# Altium footprint library lianche_noBOM_lib.PcbLib: 26 footprints (part 2 of 2)
Each footprint in its own frame and in the unit in brackets; x right, y up, seen from the top. Pads: shape width x height; smd on the part's side, far side on the other; paste and mask are expansions set on the pad; w line width, h text height; cw(c..) or ccw(c..) is an arc to the next point about the centre after c.
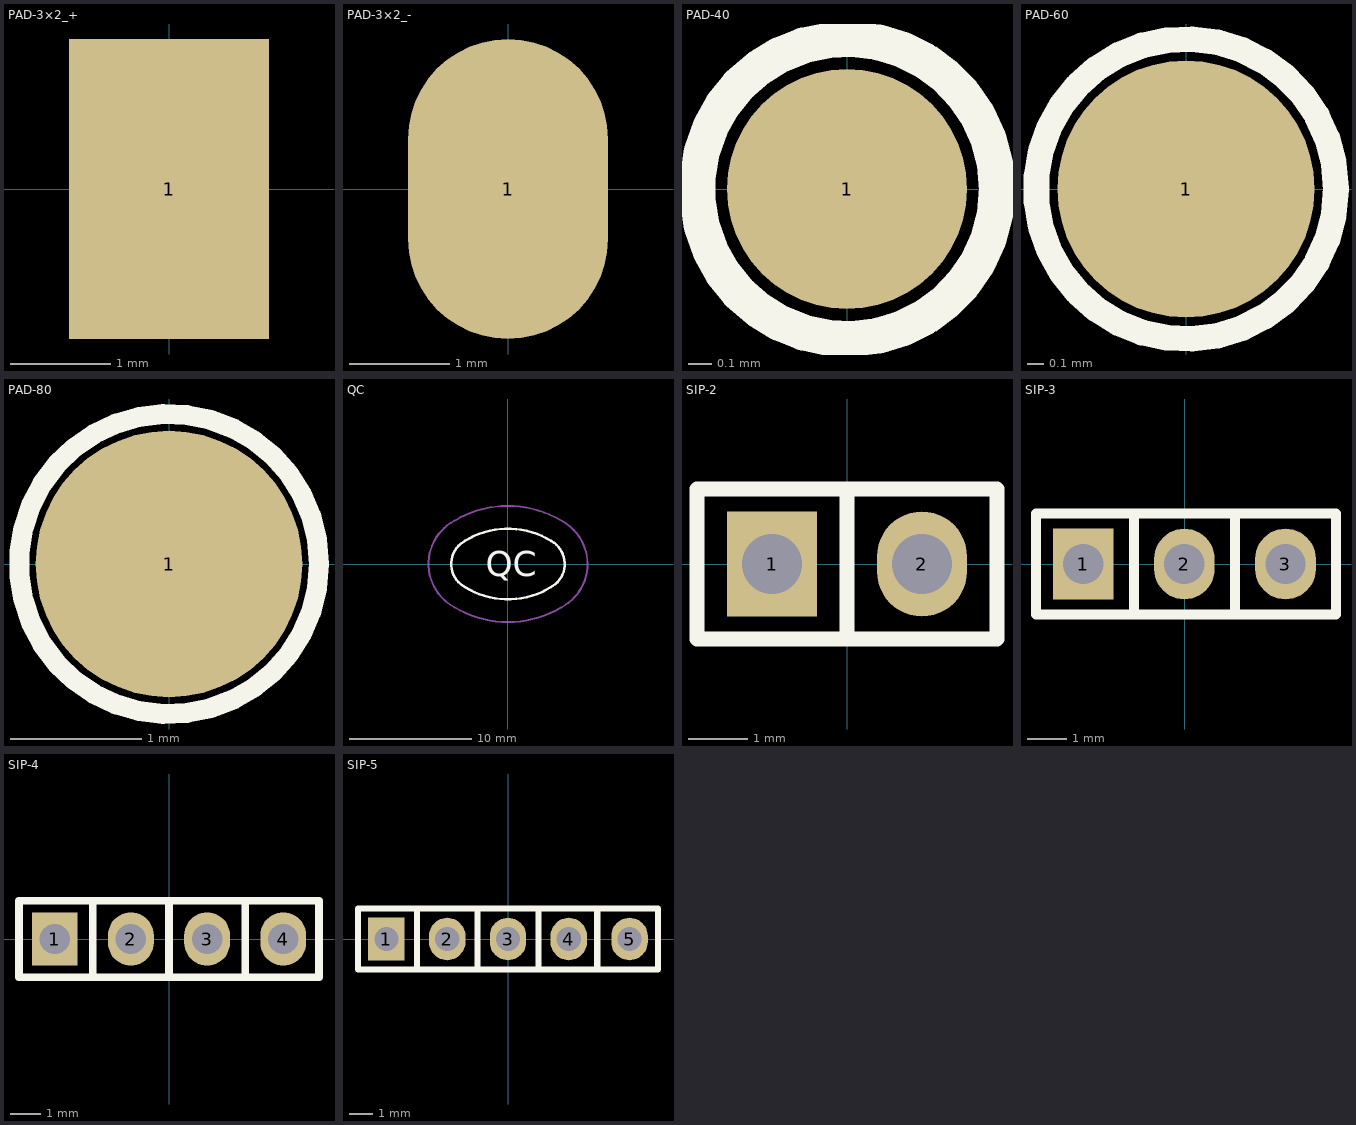
[diagram p1: the footprints below, top view; thin cyan lines are the x and y axes]

## PAD-3×2_+ [mm]
height 0.051
pads (1):
  rect 2x3 smd: 1(0,0)

## PAD-3×2_- [mm]
height 0.051
pads (1):
  oval 2x3 smd: 1(0,0)

## PAD-40 [mil]
height 47.24
pads (1):
  round 40 smd paste-43.31: 1(0,0)
Top Overlay:
  circle w6: c0,0 r25

## PAD-60 [mil]
height 47.24
pads (1):
  round 60 smd paste-43.31: 1(0,0)
Top Overlay:
  circle w6: c0,0 r35

## PAD-80 [mil]
height 47.24
pads (1):
  round 80 smd paste-43.31: 1(0,0)
Top Overlay:
  circle w6: c0,0 r45

## QC [mil]
height 2
Top Overlay:
  lines w8: -152.68,64.82 ccw(c-98,0) -152.2,-65.23 ; -152.7,64.84 cw(c0.01,-148) 138.91,74.09 ; -152.19,-65.21 ccw(c-0.01,148) 152.7,-64.84 ; 139.77,73.81 cw(c98,0) 152.68,-64.82
  text "QC" at -71,-40.1 h81
Mechanical 15:
  lines w6: -172.01,139.49 ccw(c-98,0) -171.72,-139.64 ; -171.67,-139.56 ccw(c0.19,148) 171.82,-139.71 ; -171.62,139.71 cw(c0.01,-148) 169.76,140.81 ; 169.74,140.77 cw(c98.2,0) 172.21,-139.49

## SIP-2 [mil]
height 280
pads (2):
  rect 60x70 hole 40: 1(-50,0)
  oval 60x70 hole 40: 2(50,0)
Top Overlay:
  lines w10: 0,-50 0,50 ; -100,-50 100,-50 100,50 -100,50 -100,-50
3D body "HEADER.STEP": height 298.43, standoff -115.75, extent 0,-50 100,50
3D body "HEADER.STEP": height 298.43, standoff -115.75, extent -100,-50 0,50

## SIP-3 [mil]
height 280
pads (3):
  rect 60x70 hole 40: 1(-100.11,0.08)
  oval 60x70 hole 40: 2(-0.11,0.08) 3(99.89,0.08)
Top Overlay:
  lines w10: -50.11,-49.92 -50.11,50.08 ; 49.89,-49.92 49.89,50.08 ; -146.96,-49.92 -146.96,50.08 149.89,50.08 149.89,-49.92 -146.96,-49.92
3D body "HEADER.STEP": height 298.43, standoff -115.75, extent 48.89,-45.92 148.89,54.08
3D body "HEADER.STEP": height 298.43, standoff -115.75, extent -151.11,-45.92 -51.11,54.08
3D body "HEADER.STEP": height 298.43, standoff -115.75, extent -51.11,-45.92 48.89,54.08

## SIP-4 [mil]
height 280
pads (4):
  rect 60x70 hole 40: 1(-150,0)
  oval 60x70 hole 40: 2(-50,0) 3(50,0) 4(150,0)
Top Overlay:
  lines w10: -100,-50 -100,50 ; 0,-50 0,50 ; 100,-50 100,50 ; -196.85,-50 -196.85,50 196.85,50 196.85,-50 -196.85,-50
3D body "HEADER.STEP": height 298.43, standoff -115.75, extent 99,-46 199,54
3D body "HEADER.STEP": height 298.43, standoff -115.75, extent -1,-46 99,54
3D body "HEADER.STEP": height 298.43, standoff -115.75, extent -201,-46 -101,54
3D body "HEADER.STEP": height 298.43, standoff -115.75, extent -101,-46 -1,54

## SIP-5 [mil]
height 280
pads (5):
  rect 60x70 hole 40: 1(-200,0)
  oval 60x70 hole 40: 2(-100,0) 3(0,0) 4(100,0) 5(200,0)
Top Overlay:
  lines w10: -150,-50 -150,50 ; -50,-50 -50,50 ; 50,-50 50,50 ; 146.85,-50 146.85,50 ; -246.85,-50 246.85,-50 246.85,50 -246.85,50 -246.85,-50
3D body "HEADER.STEP": height 298.43, standoff -115.75, extent 149,-46 249,54
3D body "HEADER.STEP": height 298.43, standoff -115.75, extent 49,-46 149,54
3D body "HEADER.STEP": height 298.43, standoff -115.75, extent -51,-46 49,54
3D body "HEADER.STEP": height 298.43, standoff -115.75, extent -251,-46 -151,54
3D body "HEADER.STEP": height 298.43, standoff -115.75, extent -151,-46 -51,54